# EAGLE library part LTV-827 (library EVT-Eagle-Library)
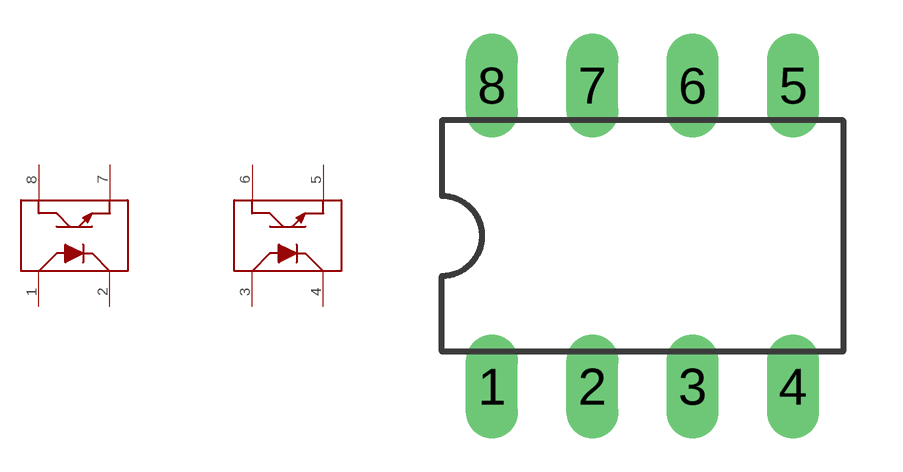
[diagram p1: symbol with the pads of DIL08; footprint DIL08]

Designator prefix -; gates G$1=LTV-847 G$2=LTV-847

## LTV-827  [DIL08]
1  G$1:A
2  G$1:CA
3  G$2:A
4  G$2:CA
5  G$2:E
6  G$2:CO
7  G$1:E
8  G$1:CO

## Footprint DIL08 (pad centres in mm)
Dual In Line Package
drill 0.813 long: 1 -3.81,-3.81; 2 -1.27,-3.81; 3 1.27,-3.81; 4 3.81,-3.81; 5 3.81,3.81; 6 1.27,3.81; 7 -1.27,3.81; 8 -3.81,3.81